# Altium integrated library Maxim Analog Filters.IntLib: 555 symbols (part 25 of 26)
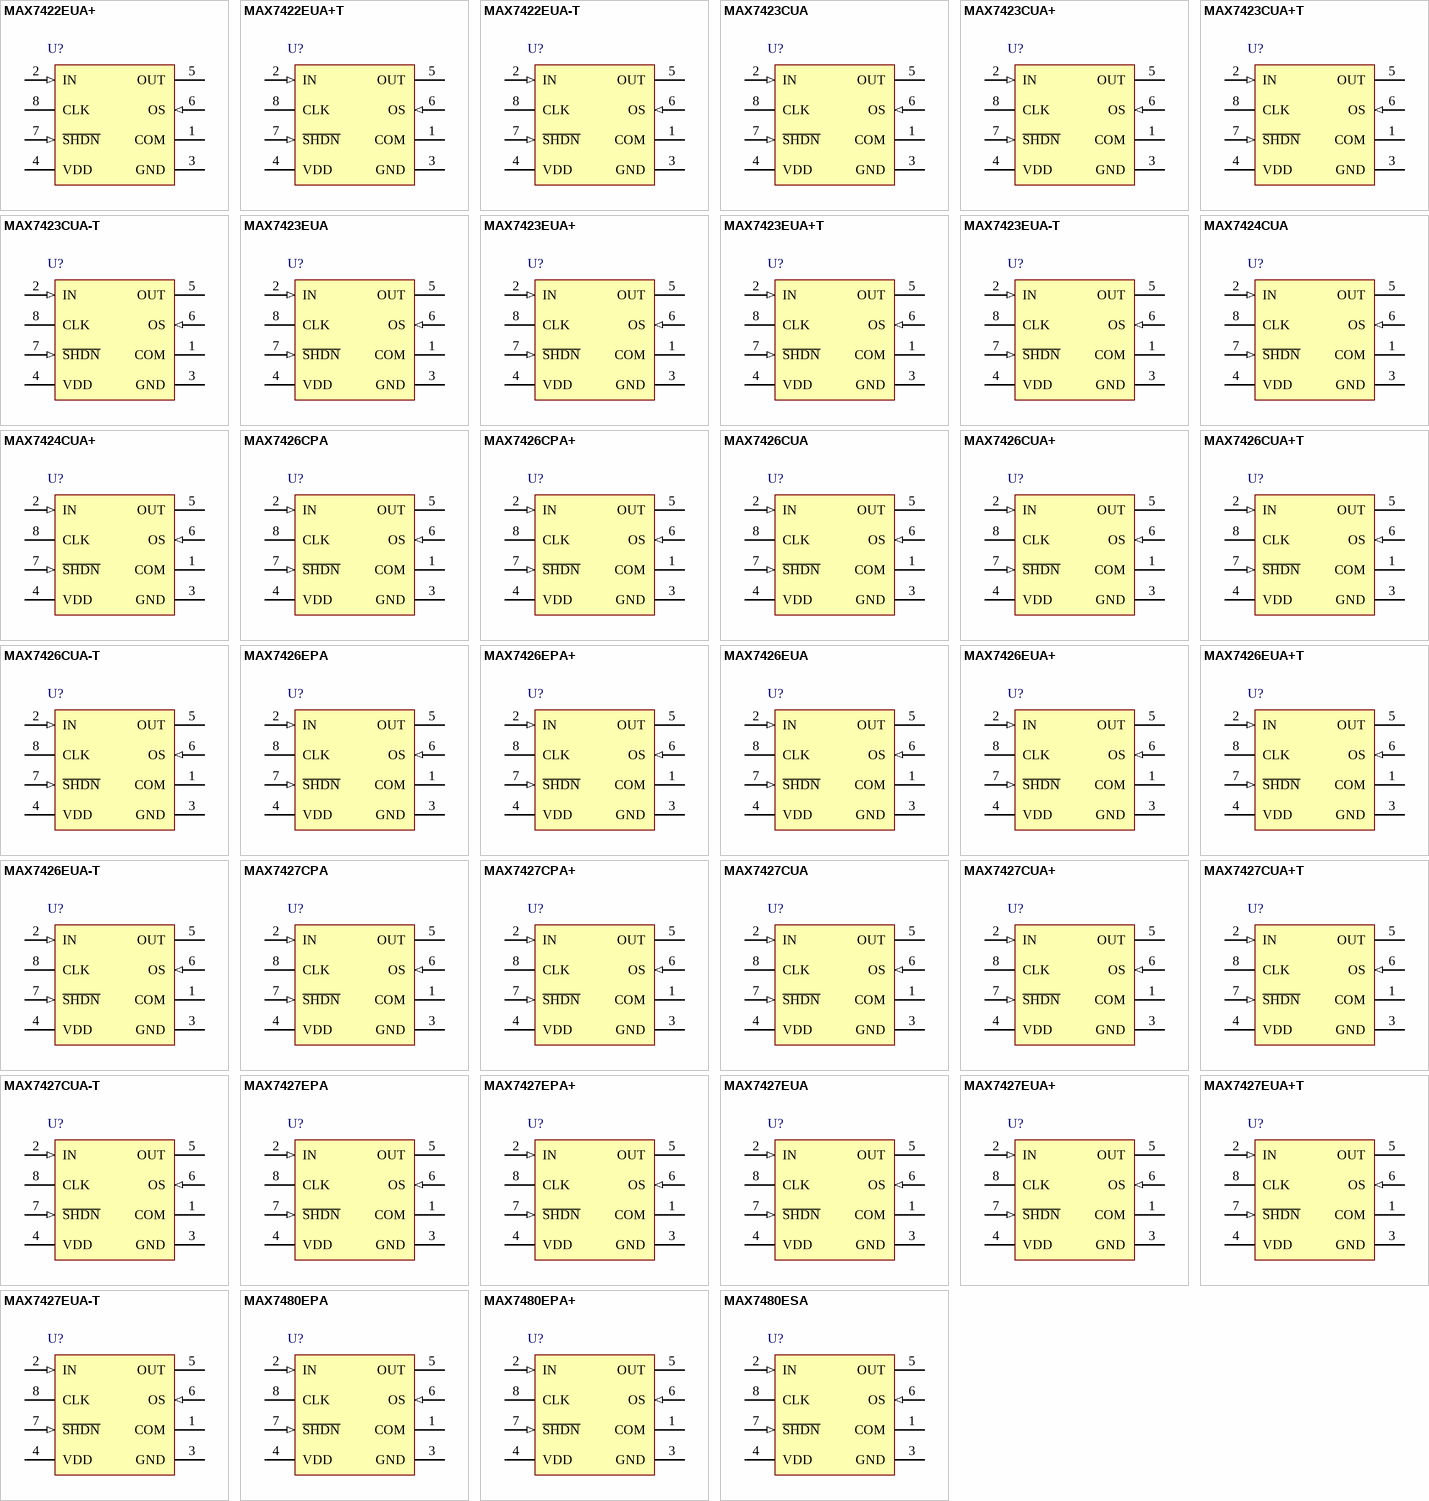
[diagram p41: symbols MAX7422EUA+ to MAX7480ESA]

## MAX7480ESA
designator U?
8th-Order Switched Capacitor Lowpass Filter, Butterworth, -40 to 85 degC, 8-Pin SOIC (S8-5); Generic Part Number: MAX7480; PartNumber: MAX7480ESA; Filter Sections: 1; Order Per Filter Section: 8; Program Method: Clock; DatasheetVersion: Rev. 0; PackageVersion: Rev. D, 10/2012; PackageReference: S8-5; PackageDescription: 8-Pin Small-Outline IC, Narrow (0.15in) (S8-5), Body 4.90 x 3.90 mm, Pitch 1.27 mm; Supplier 1: Mouser; Supplier Part Number 1: N/A; Filter Characteristic: Butterworth; Filter Class: Switched Cap; Filter Type: Lowpass; Mounting Technology: Surface Mount; Code_JEDEC: MS012; ComponentLink1Description: Manufacturer URL; ComponentLink1URL: http://www.maximintegrated.com/; ComponentLink2Description: Datasheet; ComponentLink2URL: http://datasheets.maximintegrated.com/en/ds/MAX7480.pdf; ComponentLink3Description: Package Specification; ComponentLink3URL: http://pdfserv.maximintegrated.com/package_dwgs/21-0041.PDF
footprint MAXM-S8-5_N (SOIC, 8-Leads, Body 4.9x3.9mm, Pitch 1.27mm, IPC Medium Density)
footprint MAXM-S8-5_L (SOIC, 8-Leads, Body 4.9x3.9mm, Pitch 1.27mm, IPC High Density)
footprint MAXM-S8-5_M (SOIC, 8-Leads, Body 4.9x3.9mm, Pitch 1.27mm, IPC Low Density)
pins: 1 COM "Common Input. Biased internally at midsupply. Bypass externally to GND with a 0.1uF capacitor. To override internal biasing, drive with an external supply.", 2 IN (in) "Filter Input", 3 GND (power) "Ground", 4 VDD (power) "Positive Supply Input: +5V for MAX7400/MAX7403, +3V for MAX7404/MAX7407", 5 OUT (hiz) "Filter Output", 6 OS (in) "Offset Adjust Input. To adjust output offset, bias OS externally. Connect OS to COM if no offset adjustment is needed. Refer to Offset and Common-Mode Input Adjustment section.", 7 ~{SHDN} (in) "Shutdown Input. Drive low to enable shutdown mode; drive high or connect to VDD for normal operation.", 8 CLK "Clock Input. To override the internal oscillator, connect to an external clock; otherwise, connect an external capacitor (COSC) from CLK to GND to set the internal oscillator frequency."

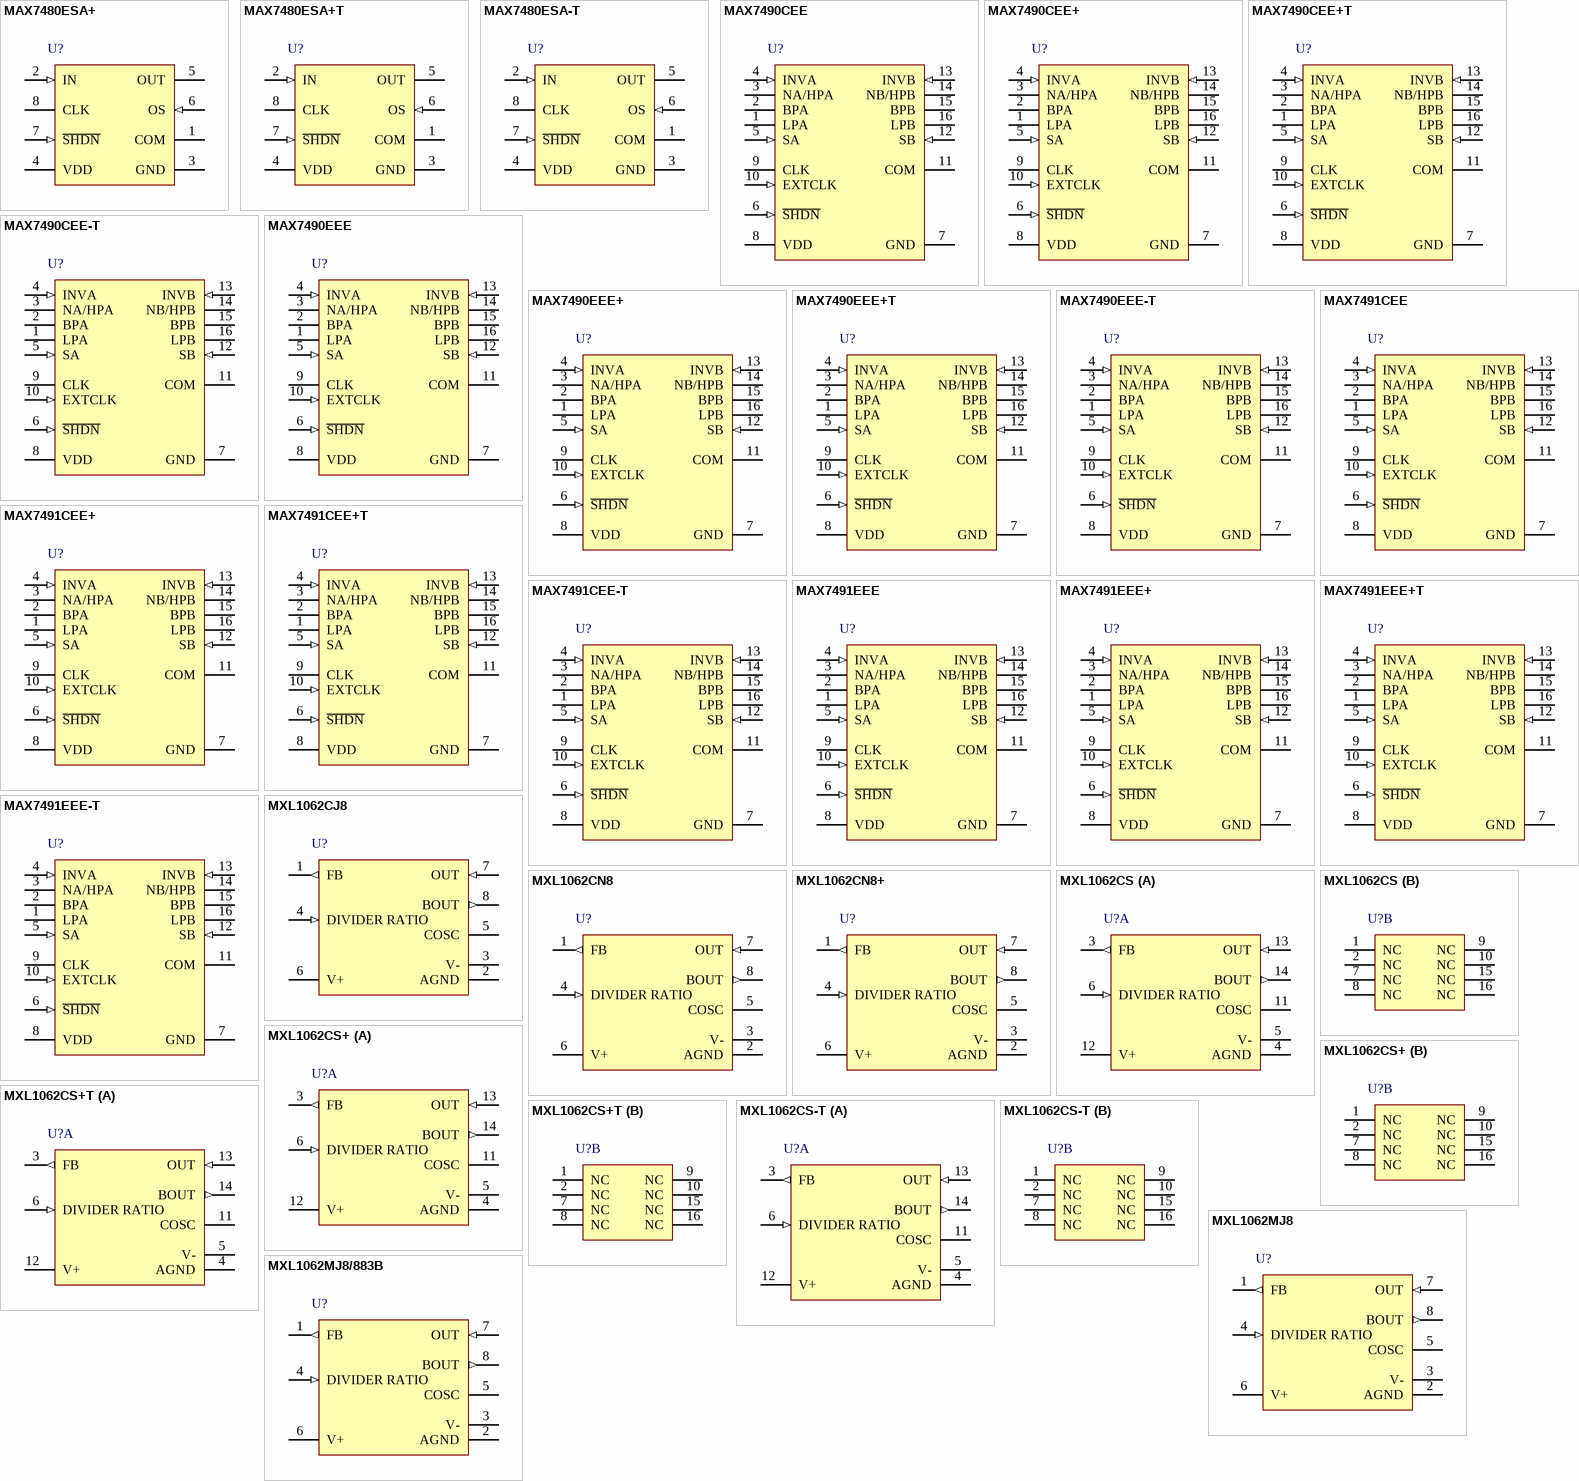
[diagram p17: symbols MAX7480ESA+ to MXL1062MJ8/883B]

## MAX7480ESA+
designator U?
8th-Order Switched Capacitor Lowpass Filter, Butterworth, -40 to 85 degC, 8-Pin SOIC (S8+5), Pb-Free; Generic Part Number: MAX7480; PartNumber: MAX7480ESA+; Filter Sections: 1; Order Per Filter Section: 8; Program Method: Clock; DatasheetVersion: Rev. 0; PackageVersion: Rev. D, 10/2012; PackageReference: S8+5; PackageDescription: 8-Pin Small-Outline IC, Narrow (0.15in) (S8+5), Body 4.90 x 3.90 mm, Pitch 1.27 mm; Supplier 1: Digi-Key; Supplier Part Number 1: MAX7480ESA+-ND; Supplier 2: Farnell; Supplier Part Number 2: 1187937; Supplier 3: Newark; Supplier Part Number 3: 89K6217; Supplier 4: Mouser; Supplier Part Number 4: 700-MAX7480ESA; Filter Characteristic: Butterworth; Filter Class: Switched Cap; Filter Type: Lowpass; RoHS: Pb-Free; Mounting Technology: Surface Mount; Code_JEDEC: MS012; ComponentLink1Description: Manufacturer URL; ComponentLink1URL: http://www.maximintegrated.com/; ComponentLink2Description: Datasheet; ComponentLink2URL: http://datasheets.maximintegrated.com/en/ds/MAX7480.pdf; ComponentLink3Description: Package Specification; ComponentLink3URL: http://pdfserv.maximintegrated.com/package_dwgs/21-0041.PDF
footprint MAXM-S8+5_N (SOIC, 8-Leads, Body 4.90x3.90mm, Pitch 1.27mm, IPC Medium Density)
footprint MAXM-S8+5_L (SOIC, 8-Leads, Body 4.90x3.90mm, Pitch 1.27mm, IPC High Density)
footprint MAXM-S8+5_M (SOIC, 8-Leads, Body 4.90x3.90mm, Pitch 1.27mm, IPC Low Density)
pins: 1 COM "Common Input. Biased internally at midsupply. Bypass externally to GND with a 0.1uF capacitor. To override internal biasing, drive with an external supply.", 2 IN (in) "Filter Input", 3 GND (power) "Ground", 4 VDD (power) "Positive Supply Input: +5V for MAX7400/MAX7403, +3V for MAX7404/MAX7407", 5 OUT (hiz) "Filter Output", 6 OS (in) "Offset Adjust Input. To adjust output offset, bias OS externally. Connect OS to COM if no offset adjustment is needed. Refer to Offset and Common-Mode Input Adjustment section.", 7 ~{SHDN} (in) "Shutdown Input. Drive low to enable shutdown mode; drive high or connect to VDD for normal operation.", 8 CLK "Clock Input. To override the internal oscillator, connect to an external clock; otherwise, connect an external capacitor (COSC) from CLK to GND to set the internal oscillator frequency."

## MAX7480ESA+T
designator U?
8th-Order Switched Capacitor Lowpass Filter, Butterworth, -40 to 85 degC, 8-Pin SOIC (S8+5), Pb-Free, Tape and Reel; Generic Part Number: MAX7480; PartNumber: MAX7480ESA+T; Filter Sections: 1; Order Per Filter Section: 8; Program Method: Clock; DatasheetVersion: Rev. 0; PackageVersion: Rev. D, 10/2012; PackageReference: S8+5; PackageDescription: 8-Pin Small-Outline IC, Narrow (0.15in) (S8+5), Body 4.90 x 3.90 mm, Pitch 1.27 mm; Supplier 1: Digi-Key; Supplier Part Number 1: MAX7480ESA+T-ND; Supplier 2: Mouser; Supplier Part Number 2: 700-MAX7480ESAT; Filter Characteristic: Butterworth; Filter Class: Switched Cap; Filter Type: Lowpass; Packing: Tape and Reel; RoHS: Pb-Free; Mounting Technology: Surface Mount; Code_JEDEC: MS012; ComponentLink1Description: Manufacturer URL; ComponentLink1URL: http://www.maximintegrated.com/; ComponentLink2Description: Datasheet; ComponentLink2URL: http://datasheets.maximintegrated.com/en/ds/MAX7480.pdf; ComponentLink3Description: Package Specification; ComponentLink3URL: http://pdfserv.maximintegrated.com/package_dwgs/21-0041.PDF
footprint MAXM-S8+5_N (SOIC, 8-Leads, Body 4.90x3.90mm, Pitch 1.27mm, IPC Medium Density)
footprint MAXM-S8+5_L (SOIC, 8-Leads, Body 4.90x3.90mm, Pitch 1.27mm, IPC High Density)
footprint MAXM-S8+5_M (SOIC, 8-Leads, Body 4.90x3.90mm, Pitch 1.27mm, IPC Low Density)
pins: 1 COM "Common Input. Biased internally at midsupply. Bypass externally to GND with a 0.1uF capacitor. To override internal biasing, drive with an external supply.", 2 IN (in) "Filter Input", 3 GND (power) "Ground", 4 VDD (power) "Positive Supply Input: +5V for MAX7400/MAX7403, +3V for MAX7404/MAX7407", 5 OUT (hiz) "Filter Output", 6 OS (in) "Offset Adjust Input. To adjust output offset, bias OS externally. Connect OS to COM if no offset adjustment is needed. Refer to Offset and Common-Mode Input Adjustment section.", 7 ~{SHDN} (in) "Shutdown Input. Drive low to enable shutdown mode; drive high or connect to VDD for normal operation.", 8 CLK "Clock Input. To override the internal oscillator, connect to an external clock; otherwise, connect an external capacitor (COSC) from CLK to GND to set the internal oscillator frequency."

## MAX7480ESA-T
designator U?
8th-Order Switched Capacitor Lowpass Filter, Butterworth, -40 to 85 degC, 8-Pin SOIC (S8-5), Tape and Reel; Generic Part Number: MAX7480; PartNumber: MAX7480ESA-T; Filter Sections: 1; Order Per Filter Section: 8; Program Method: Clock; DatasheetVersion: Rev. 0; PackageVersion: Rev. D, 10/2012; PackageReference: S8-5; PackageDescription: 8-Pin Small-Outline IC, Narrow (0.15in) (S8-5), Body 4.90 x 3.90 mm, Pitch 1.27 mm; Supplier 1: Mouser; Supplier Part Number 1: N/A; Filter Characteristic: Butterworth; Filter Class: Switched Cap; Filter Type: Lowpass; Packing: Tape and Reel; Mounting Technology: Surface Mount; Code_JEDEC: MS012; ComponentLink1Description: Manufacturer URL; ComponentLink1URL: http://www.maximintegrated.com/; ComponentLink2Description: Datasheet; ComponentLink2URL: http://datasheets.maximintegrated.com/en/ds/MAX7480.pdf; ComponentLink3Description: Package Specification; ComponentLink3URL: http://pdfserv.maximintegrated.com/package_dwgs/21-0041.PDF
footprint MAXM-S8-5_N (SOIC, 8-Leads, Body 4.9x3.9mm, Pitch 1.27mm, IPC Medium Density)
footprint MAXM-S8-5_L (SOIC, 8-Leads, Body 4.9x3.9mm, Pitch 1.27mm, IPC High Density)
footprint MAXM-S8-5_M (SOIC, 8-Leads, Body 4.9x3.9mm, Pitch 1.27mm, IPC Low Density)
pins: 1 COM "Common Input. Biased internally at midsupply. Bypass externally to GND with a 0.1uF capacitor. To override internal biasing, drive with an external supply.", 2 IN (in) "Filter Input", 3 GND (power) "Ground", 4 VDD (power) "Positive Supply Input: +5V for MAX7400/MAX7403, +3V for MAX7404/MAX7407", 5 OUT (hiz) "Filter Output", 6 OS (in) "Offset Adjust Input. To adjust output offset, bias OS externally. Connect OS to COM if no offset adjustment is needed. Refer to Offset and Common-Mode Input Adjustment section.", 7 ~{SHDN} (in) "Shutdown Input. Drive low to enable shutdown mode; drive high or connect to VDD for normal operation.", 8 CLK "Clock Input. To override the internal oscillator, connect to an external clock; otherwise, connect an external capacitor (COSC) from CLK to GND to set the internal oscillator frequency."

## MAX7490CEE
designator U?
Dual Switched Capacitor Filter, Clock Programmable, 0 to 70 degC, 16-Pin SOP (E16-4); Generic Part Number: MAX7490; PartNumber: MAX7490CEE; Filter Sections: 2; Filter Type: Universal; DatasheetVersion: Rev. 1; PackageVersion: Rev. K, 04/2012; PackageReference: E16-4; PackageDescription: 16-Pin Quarter Small-Outline Package, Body 4.90 x 3.89 mm, Pitch 0.635 mm; Supplier 1: Mouser; Supplier Part Number 1: N/A; Filter Characteristic: Programmable; Filter Class: Switched Cap; Order Per Filter Section: 2; Program Method: Clock; Mounting Technology: Surface Mount; Code_JEDEC: MO137; ComponentLink1Description: Manufacturer URL; ComponentLink1URL: http://www.maximintegrated.com/; ComponentLink2Description: Datasheet; ComponentLink2URL: http://datasheets.maximintegrated.com/en/ds/MAX7490-MAX7491.pdf; ComponentLink3Description: Package Specification; ComponentLink3URL: http://pdfserv.maximintegrated.com/package_dwgs/21-0055.PDF
footprint MAXM-E16-4_N (SOP, 16-Leads, Body 4.90x3.89mm, Pitch 0.635mm, IPC Medium Density)
footprint MAXM-E16-4_L (SOP, 16-Leads, Body 4.90x3.89mm, Pitch 0.635mm, IPC High Density)
footprint MAXM-E16-4_M (SOP, 16-Leads, Body 4.90x3.89mm, Pitch 0.635mm, IPC Low Density)
pins: 1 LPA (hiz) "2nd-Order Lowpass Filter Output", 2 BPA (hiz) "2nd-Order Bandpass Filter Output", 3 NA/HPA (hiz) "2nd-Order Notch/Highpass Filter Output", 4 INVA (in) "Inverting Input of Filter Summing Op Amp", 5 SA (in) "Summing Input. The connection of the summing input, along with the other resistor connections, determine the circuit topology (mode) of each 2ndorder section. SA must never be left unconnected.", 6 ~{SHDN} (in) "Shutdown Input. Drive S\H\D\N\ low to enable shutdown mode; drive S\H\D\N\ high or connect to VDD for normal operation.", 7 GND (power) "Ground Pin", 8 VDD (power) "Positive Supply. Bypass VDD with a 0.1µF capacitor to GND. A low-noise supply is recommended. Input +5V for MAX7490 or +3V for MAX7491.", 9 CLK "Clock Input. Connect CLK to an external capacitor (COSC) between CLK and ground to set the internal oscillator frequency. For external clock operation, drive CLK with a CMOS-level clock. The duty cycle of the external clock (See Datasheet)", 10 EXTCLK (in) "External/Internal Clock Select Input. Connect EXTCLK to VDD when driving CLK externally. Connect EXTCLK to GND when using the internal oscillator.", 11 COM "Common Pin. Biased internally at VDD/2. Bypass externally to GND with 0.1µF capacitor. To override the internal biasing, drive COM with an external low-impedance source.", 12 SB (in) "Summing Input. The connection of the summing input, along with the other resistor connections, determine the circuit topology (mode) of each 2ndorder section. SB must never be left unconnected.", 13 INVB (in) "Inverting Input of Filter Summing Op Amp", 14 NB/HPB (hiz) "2nd-Order Notch/Highpass Filter Output", 15 BPB (hiz) "2nd-Order Bandpass Filter Output", 16 LPB (hiz) "2nd-Order Lowpass Filter Output"

## MAX7490CEE+
designator U?
Dual Switched Capacitor Filter, Clock Programmable, 0 to 70 degC, 16-Pin SOP (E16+4), Pb-Free; Generic Part Number: MAX7490; PartNumber: MAX7490CEE+; Filter Sections: 2; Filter Type: Universal; DatasheetVersion: Rev. 1; PackageVersion: Rev. K, 04/2012; PackageReference: E16+4; PackageDescription: 16-Pin Quarter Small-Outline Package, Body 4.90 x 3.89 mm, Pitch 0.635 mm; Supplier 1: Digi-Key; Supplier Part Number 1: MAX7490CEE+-ND; Supplier 2: Mouser; Supplier Part Number 2: 700-MAX7490CEE; Filter Characteristic: Programmable; Filter Class: Switched Cap; Order Per Filter Section: 2; Program Method: Clock; RoHS: Pb-Free; Mounting Technology: Surface Mount; Code_JEDEC: MO137; ComponentLink1Description: Manufacturer URL; ComponentLink1URL: http://www.maximintegrated.com/; ComponentLink2Description: Datasheet; ComponentLink2URL: http://datasheets.maximintegrated.com/en/ds/MAX7490-MAX7491.pdf; ComponentLink3Description: Package Specification; ComponentLink3URL: http://pdfserv.maximintegrated.com/package_dwgs/21-0055.PDF
footprint MAXM-E16+4_N (SOP, 16-Leads, Body 4.90x3.89mm, Pitch 0.635mm, IPC Medium Density)
footprint MAXM-E16+4_L (SOP, 16-Leads, Body 4.90x3.89mm, Pitch 0.635mm, IPC High Density)
footprint MAXM-E16+4_M (SOP, 16-Leads, Body 4.90x3.89mm, Pitch 0.635mm, IPC Low Density)
pins: 1 LPA (hiz) "2nd-Order Lowpass Filter Output", 2 BPA (hiz) "2nd-Order Bandpass Filter Output", 3 NA/HPA (hiz) "2nd-Order Notch/Highpass Filter Output", 4 INVA (in) "Inverting Input of Filter Summing Op Amp", 5 SA (in) "Summing Input. The connection of the summing input, along with the other resistor connections, determine the circuit topology (mode) of each 2ndorder section. S_ must never be left unconnected.", 6 ~{SHDN} (in) "Shutdown Input. Drive S\H\D\N\ low to enable shutdown mode; drive S\H\D\N\ high or connect to VDD for normal operation.", 7 GND (power) "Ground Pin", 8 VDD (power) "Positive Supply. Bypass VDD with a 0.1uF capacitor to GND. A low-noise supply is recommended. Input +5V for MAX7490", 9 CLK "Clock Input. Connect CLK to an external capacitor (COSC) between CLK and ground to set the internal oscillator frequency. For external clock operation, drive CLK with a CMOS-level clock. The duty cycle of the external clock (See Datasheet)", 10 EXTCLK (in) "External/Internal Clock Select Input. Connect EXTCLK to VDD when driving CLK externally. Connect EXTCLK to GND when using the internal oscillator.", 11 COM "Common Pin. Biased internally at VDD/2. Bypass externally to GND with 0.1uF capacitor. To override the internal biasing, drive COM with an external low-impedance source.", 12 SB (in) "Summing Input. The connection of the summing input, along with the other resistor connections, determine the circuit topology (mode) of each 2ndorder section. S_ must never be left unconnected.", 13 INVB (in) "Inverting Input of Filter Summing Op Amp", 14 NB/HPB (hiz) "2nd-Order Notch/Highpass Filter Output", 15 BPB (hiz) "2nd-Order Bandpass Filter Output", 16 LPB (hiz) "2nd-Order Lowpass Filter Output"

## MAX7490CEE+T
designator U?
Dual Switched Capacitor Filter, Clock Programmable, 0 to 70 degC, 16-Pin SOP (E16+4), Pb-Free, Tape and Reel; Generic Part Number: MAX7490; PartNumber: MAX7490CEE+T; Filter Sections: 2; Filter Type: Universal; DatasheetVersion: Rev. 1; PackageVersion: Rev. K, 04/2012; PackageReference: E16+4; PackageDescription: 16-Pin Quarter Small-Outline Package, Body 4.90 x 3.89 mm, Pitch 0.635 mm; Supplier 1: Digi-Key; Supplier Part Number 1: MAX7490CEE+T-ND; Supplier 2: Mouser; Supplier Part Number 2: 700-MAX7490CEET; Filter Characteristic: Programmable; Filter Class: Switched Cap; Order Per Filter Section: 2; Packing: Tape and Reel; Program Method: Clock; RoHS: Pb-Free; Mounting Technology: Surface Mount; Code_JEDEC: MO137; ComponentLink1Description: Manufacturer URL; ComponentLink1URL: http://www.maximintegrated.com/; ComponentLink2Description: Datasheet; ComponentLink2URL: http://datasheets.maximintegrated.com/en/ds/MAX7490-MAX7491.pdf; ComponentLink3Description: Package Specification; ComponentLink3URL: http://pdfserv.maximintegrated.com/package_dwgs/21-0055.PDF
footprint MAXM-E16+4_N (SOP, 16-Leads, Body 4.90x3.89mm, Pitch 0.635mm, IPC Medium Density)
footprint MAXM-E16+4_L (SOP, 16-Leads, Body 4.90x3.89mm, Pitch 0.635mm, IPC High Density)
footprint MAXM-E16+4_M (SOP, 16-Leads, Body 4.90x3.89mm, Pitch 0.635mm, IPC Low Density)
pins: 1 LPA (hiz) "2nd-Order Lowpass Filter Output", 2 BPA (hiz) "2nd-Order Bandpass Filter Output", 3 NA/HPA (hiz) "2nd-Order Notch/Highpass Filter Output", 4 INVA (in) "Inverting Input of Filter Summing Op Amp", 5 SA (in) "Summing Input. The connection of the summing input, along with the other resistor connections, determine the circuit topology (mode) of each 2ndorder section. S_ must never be left unconnected.", 6 ~{SHDN} (in) "Shutdown Input. Drive S\H\D\N\ low to enable shutdown mode; drive S\H\D\N\ high or connect to VDD for normal operation.", 7 GND (power) "Ground Pin", 8 VDD (power) "Positive Supply. Bypass VDD with a 0.1uF capacitor to GND. A low-noise supply is recommended. Input +5V for MAX7490", 9 CLK "Clock Input. Connect CLK to an external capacitor (COSC) between CLK and ground to set the internal oscillator frequency. For external clock operation, drive CLK with a CMOS-level clock. The duty cycle of the external clock (See Datasheet)", 10 EXTCLK (in) "External/Internal Clock Select Input. Connect EXTCLK to VDD when driving CLK externally. Connect EXTCLK to GND when using the internal oscillator.", 11 COM "Common Pin. Biased internally at VDD/2. Bypass externally to GND with 0.1uF capacitor. To override the internal biasing, drive COM with an external low-impedance source.", 12 SB (in) "Summing Input. The connection of the summing input, along with the other resistor connections, determine the circuit topology (mode) of each 2ndorder section. S_ must never be left unconnected.", 13 INVB (in) "Inverting Input of Filter Summing Op Amp", 14 NB/HPB (hiz) "2nd-Order Notch/Highpass Filter Output", 15 BPB (hiz) "2nd-Order Bandpass Filter Output", 16 LPB (hiz) "2nd-Order Lowpass Filter Output"

## MAX7490CEE-T
designator U?
Dual Switched Capacitor Filter, Clock Programmable, 0 to 70 degC, 16-Pin SOP (E16-4), Tape and Reel; Generic Part Number: MAX7490; PartNumber: MAX7490CEE-T; Filter Sections: 2; Filter Type: Universal; DatasheetVersion: Rev. 1; PackageVersion: Rev. K, 04/2012; PackageReference: E16-4; PackageDescription: 16-Pin Quarter Small-Outline Package, Body 4.90 x 3.89 mm, Pitch 0.635 mm; Supplier 1: Mouser; Supplier Part Number 1: N/A; Filter Characteristic: Programmable; Filter Class: Switched Cap; Order Per Filter Section: 2; Packing: Tape and Reel; Program Method: Clock; Mounting Technology: Surface Mount; Code_JEDEC: MO137; ComponentLink1Description: Manufacturer URL; ComponentLink1URL: http://www.maximintegrated.com/; ComponentLink2Description: Datasheet; ComponentLink2URL: http://datasheets.maximintegrated.com/en/ds/MAX7490-MAX7491.pdf; ComponentLink3Description: Package Specification; ComponentLink3URL: http://pdfserv.maximintegrated.com/package_dwgs/21-0055.PDF
footprint MAXM-E16-4_N (SOP, 16-Leads, Body 4.90x3.89mm, Pitch 0.635mm, IPC Medium Density)
footprint MAXM-E16-4_L (SOP, 16-Leads, Body 4.90x3.89mm, Pitch 0.635mm, IPC High Density)
footprint MAXM-E16-4_M (SOP, 16-Leads, Body 4.90x3.89mm, Pitch 0.635mm, IPC Low Density)
pins: 1 LPA (hiz) "2nd-Order Lowpass Filter Output", 2 BPA (hiz) "2nd-Order Bandpass Filter Output", 3 NA/HPA (hiz) "2nd-Order Notch/Highpass Filter Output", 4 INVA (in) "Inverting Input of Filter Summing Op Amp", 5 SA (in) "Summing Input. The connection of the summing input, along with the other resistor connections, determine the circuit topology (mode) of each 2ndorder section. SA must never be left unconnected.", 6 ~{SHDN} (in) "Shutdown Input. Drive S\H\D\N\ low to enable shutdown mode; drive S\H\D\N\ high or connect to VDD for normal operation.", 7 GND (power) "Ground Pin", 8 VDD (power) "Positive Supply. Bypass VDD with a 0.1µF capacitor to GND. A low-noise supply is recommended. Input +5V for MAX7490 or +3V for MAX7491.", 9 CLK "Clock Input. Connect CLK to an external capacitor (COSC) between CLK and ground to set the internal oscillator frequency. For external clock operation, drive CLK with a CMOS-level clock. The duty cycle of the external clock (See Datasheet)", 10 EXTCLK (in) "External/Internal Clock Select Input. Connect EXTCLK to VDD when driving CLK externally. Connect EXTCLK to GND when using the internal oscillator.", 11 COM "Common Pin. Biased internally at VDD/2. Bypass externally to GND with 0.1µF capacitor. To override the internal biasing, drive COM with an external low-impedance source.", 12 SB (in) "Summing Input. The connection of the summing input, along with the other resistor connections, determine the circuit topology (mode) of each 2ndorder section. SB must never be left unconnected.", 13 INVB (in) "Inverting Input of Filter Summing Op Amp", 14 NB/HPB (hiz) "2nd-Order Notch/Highpass Filter Output", 15 BPB (hiz) "2nd-Order Bandpass Filter Output", 16 LPB (hiz) "2nd-Order Lowpass Filter Output"

## MAX7490EEE
designator U?
Dual Switched Capacitor Filter, Clock Programmable, -40 to 85 degC, 16-Pin SOP (E16-4); Generic Part Number: MAX7490; PartNumber: MAX7490EEE; Filter Sections: 2; Filter Type: Universal; DatasheetVersion: Rev. 1; PackageVersion: Rev. K, 04/2012; PackageReference: E16-4; PackageDescription: 16-Pin Quarter Small-Outline Package, Body 4.90 x 3.89 mm, Pitch 0.635 mm; Supplier 1: Mouser; Supplier Part Number 1: N/A; Filter Characteristic: Programmable; Filter Class: Switched Cap; Order Per Filter Section: 2; Program Method: Clock; Mounting Technology: Surface Mount; Code_JEDEC: MO137; ComponentLink1Description: Manufacturer URL; ComponentLink1URL: http://www.maximintegrated.com/; ComponentLink2Description: Datasheet; ComponentLink2URL: http://datasheets.maximintegrated.com/en/ds/MAX7490-MAX7491.pdf; ComponentLink3Description: Package Specification; ComponentLink3URL: http://pdfserv.maximintegrated.com/package_dwgs/21-0055.PDF
footprint MAXM-E16-4_N (SOP, 16-Leads, Body 4.90x3.89mm, Pitch 0.635mm, IPC Medium Density)
footprint MAXM-E16-4_L (SOP, 16-Leads, Body 4.90x3.89mm, Pitch 0.635mm, IPC High Density)
footprint MAXM-E16-4_M (SOP, 16-Leads, Body 4.90x3.89mm, Pitch 0.635mm, IPC Low Density)
pins: 1 LPA (hiz) "2nd-Order Lowpass Filter Output", 2 BPA (hiz) "2nd-Order Bandpass Filter Output", 3 NA/HPA (hiz) "2nd-Order Notch/Highpass Filter Output", 4 INVA (in) "Inverting Input of Filter Summing Op Amp", 5 SA (in) "Summing Input. The connection of the summing input, along with the other resistor connections, determine the circuit topology (mode) of each 2ndorder section. SA must never be left unconnected.", 6 ~{SHDN} (in) "Shutdown Input. Drive S\H\D\N\ low to enable shutdown mode; drive S\H\D\N\ high or connect to VDD for normal operation.", 7 GND (power) "Ground Pin", 8 VDD (power) "Positive Supply. Bypass VDD with a 0.1µF capacitor to GND. A low-noise supply is recommended. Input +5V for MAX7490 or +3V for MAX7491.", 9 CLK "Clock Input. Connect CLK to an external capacitor (COSC) between CLK and ground to set the internal oscillator frequency. For external clock operation, drive CLK with a CMOS-level clock. The duty cycle of the external clock (See Datasheet)", 10 EXTCLK (in) "External/Internal Clock Select Input. Connect EXTCLK to VDD when driving CLK externally. Connect EXTCLK to GND when using the internal oscillator.", 11 COM "Common Pin. Biased internally at VDD/2. Bypass externally to GND with 0.1µF capacitor. To override the internal biasing, drive COM with an external low-impedance source.", 12 SB (in) "Summing Input. The connection of the summing input, along with the other resistor connections, determine the circuit topology (mode) of each 2ndorder section. SB must never be left unconnected.", 13 INVB (in) "Inverting Input of Filter Summing Op Amp", 14 NB/HPB (hiz) "2nd-Order Notch/Highpass Filter Output", 15 BPB (hiz) "2nd-Order Bandpass Filter Output", 16 LPB (hiz) "2nd-Order Lowpass Filter Output"

## MAX7490EEE+
designator U?
Dual Switched Capacitor Filter, Clock Programmable, -40 to 85 degC, 16-Pin SOP (E16+4), Pb-Free; Generic Part Number: MAX7490; PartNumber: MAX7490EEE+; Filter Sections: 2; Filter Type: Universal; DatasheetVersion: Rev. 1; PackageVersion: Rev. K, 04/2012; PackageReference: E16+4; PackageDescription: 16-Pin Quarter Small-Outline Package, Body 4.90 x 3.89 mm, Pitch 0.635 mm; Supplier 1: Digi-Key; Supplier Part Number 1: MAX7490EEE+-ND; Supplier 2: Farnell; Supplier Part Number 2: 1904130; Supplier 3: Mouser; Supplier Part Number 3: 700-MAX7490EEE; Filter Characteristic: Programmable; Filter Class: Switched Cap; Order Per Filter Section: 2; Program Method: Clock; RoHS: Pb-Free; Mounting Technology: Surface Mount; Code_JEDEC: MO137; ComponentLink1Description: Manufacturer URL; ComponentLink1URL: http://www.maximintegrated.com/; ComponentLink2Description: Datasheet; ComponentLink2URL: http://datasheets.maximintegrated.com/en/ds/MAX7490-MAX7491.pdf; ComponentLink3Description: Package Specification; ComponentLink3URL: http://pdfserv.maximintegrated.com/package_dwgs/21-0055.PDF
footprint MAXM-E16+4_N (SOP, 16-Leads, Body 4.90x3.89mm, Pitch 0.635mm, IPC Medium Density)
footprint MAXM-E16+4_L (SOP, 16-Leads, Body 4.90x3.89mm, Pitch 0.635mm, IPC High Density)
footprint MAXM-E16+4_M (SOP, 16-Leads, Body 4.90x3.89mm, Pitch 0.635mm, IPC Low Density)
pins: 1 LPA (hiz) "2nd-Order Lowpass Filter Output", 2 BPA (hiz) "2nd-Order Bandpass Filter Output", 3 NA/HPA (hiz) "2nd-Order Notch/Highpass Filter Output", 4 INVA (in) "Inverting Input of Filter Summing Op Amp", 5 SA (in) "Summing Input. The connection of the summing input, along with the other resistor connections, determine the circuit topology (mode) of each 2ndorder section. S_ must never be left unconnected.", 6 ~{SHDN} (in) "Shutdown Input. Drive S\H\D\N\ low to enable shutdown mode; drive S\H\D\N\ high or connect to VDD for normal operation.", 7 GND (power) "Ground Pin", 8 VDD (power) "Positive Supply. Bypass VDD with a 0.1uF capacitor to GND. A low-noise supply is recommended. Input +5V for MAX7490", 9 CLK "Clock Input. Connect CLK to an external capacitor (COSC) between CLK and ground to set the internal oscillator frequency. For external clock operation, drive CLK with a CMOS-level clock. The duty cycle of the external clock (See Datasheet)", 10 EXTCLK (in) "External/Internal Clock Select Input. Connect EXTCLK to VDD when driving CLK externally. Connect EXTCLK to GND when using the internal oscillator.", 11 COM "Common Pin. Biased internally at VDD/2. Bypass externally to GND with 0.1uF capacitor. To override the internal biasing, drive COM with an external low-impedance source.", 12 SB (in) "Summing Input. The connection of the summing input, along with the other resistor connections, determine the circuit topology (mode) of each 2ndorder section. S_ must never be left unconnected.", 13 INVB (in) "Inverting Input of Filter Summing Op Amp", 14 NB/HPB (hiz) "2nd-Order Notch/Highpass Filter Output", 15 BPB (hiz) "2nd-Order Bandpass Filter Output", 16 LPB (hiz) "2nd-Order Lowpass Filter Output"

## MAX7490EEE+T
designator U?
Dual Switched Capacitor Filter, Clock Programmable, -40 to 85 degC, 16-Pin SOP (E16+4), Pb-Free, Tape and Reel; Generic Part Number: MAX7490; PartNumber: MAX7490EEE+T; Filter Sections: 2; Filter Type: Universal; DatasheetVersion: Rev. 1; PackageVersion: Rev. K, 04/2012; PackageReference: E16+4; PackageDescription: 16-Pin Quarter Small-Outline Package, Body 4.90 x 3.89 mm, Pitch 0.635 mm; Supplier 1: Digi-Key; Supplier Part Number 1: MAX7490EEE+T-ND; Supplier 2: Mouser; Supplier Part Number 2: 700-MAX7490EEET; Filter Characteristic: Programmable; Filter Class: Switched Cap; Order Per Filter Section: 2; Packing: Tape and Reel; Program Method: Clock; RoHS: Pb-Free; Mounting Technology: Surface Mount; Code_JEDEC: MO137; ComponentLink1Description: Manufacturer URL; ComponentLink1URL: http://www.maximintegrated.com/; ComponentLink2Description: Datasheet; ComponentLink2URL: http://datasheets.maximintegrated.com/en/ds/MAX7490-MAX7491.pdf; ComponentLink3Description: Package Specification; ComponentLink3URL: http://pdfserv.maximintegrated.com/package_dwgs/21-0055.PDF
footprint MAXM-E16+4_N (SOP, 16-Leads, Body 4.90x3.89mm, Pitch 0.635mm, IPC Medium Density)
footprint MAXM-E16+4_L (SOP, 16-Leads, Body 4.90x3.89mm, Pitch 0.635mm, IPC High Density)
footprint MAXM-E16+4_M (SOP, 16-Leads, Body 4.90x3.89mm, Pitch 0.635mm, IPC Low Density)
pins: 1 LPA (hiz) "2nd-Order Lowpass Filter Output", 2 BPA (hiz) "2nd-Order Bandpass Filter Output", 3 NA/HPA (hiz) "2nd-Order Notch/Highpass Filter Output", 4 INVA (in) "Inverting Input of Filter Summing Op Amp", 5 SA (in) "Summing Input. The connection of the summing input, along with the other resistor connections, determine the circuit topology (mode) of each 2ndorder section. S_ must never be left unconnected.", 6 ~{SHDN} (in) "Shutdown Input. Drive S\H\D\N\ low to enable shutdown mode; drive S\H\D\N\ high or connect to VDD for normal operation.", 7 GND (power) "Ground Pin", 8 VDD (power) "Positive Supply. Bypass VDD with a 0.1uF capacitor to GND. A low-noise supply is recommended. Input +5V for MAX7490", 9 CLK "Clock Input. Connect CLK to an external capacitor (COSC) between CLK and ground to set the internal oscillator frequency. For external clock operation, drive CLK with a CMOS-level clock. The duty cycle of the external clock (See Datasheet)", 10 EXTCLK (in) "External/Internal Clock Select Input. Connect EXTCLK to VDD when driving CLK externally. Connect EXTCLK to GND when using the internal oscillator.", 11 COM "Common Pin. Biased internally at VDD/2. Bypass externally to GND with 0.1uF capacitor. To override the internal biasing, drive COM with an external low-impedance source.", 12 SB (in) "Summing Input. The connection of the summing input, along with the other resistor connections, determine the circuit topology (mode) of each 2ndorder section. S_ must never be left unconnected.", 13 INVB (in) "Inverting Input of Filter Summing Op Amp", 14 NB/HPB (hiz) "2nd-Order Notch/Highpass Filter Output", 15 BPB (hiz) "2nd-Order Bandpass Filter Output", 16 LPB (hiz) "2nd-Order Lowpass Filter Output"

## MAX7490EEE-T
designator U?
Dual Switched Capacitor Filter, Clock Programmable, -40 to 85 degC, 16-Pin SOP (E16-4), Tape and Reel; Generic Part Number: MAX7490; PartNumber: MAX7490EEE-T; Filter Sections: 2; Filter Type: Universal; DatasheetVersion: Rev. 1; PackageVersion: Rev. K, 04/2012; PackageReference: E16-4; PackageDescription: 16-Pin Quarter Small-Outline Package, Body 4.90 x 3.89 mm, Pitch 0.635 mm; Supplier 1: Mouser; Supplier Part Number 1: N/A; Filter Characteristic: Programmable; Filter Class: Switched Cap; Order Per Filter Section: 2; Packing: Tape and Reel; Program Method: Clock; Mounting Technology: Surface Mount; Code_JEDEC: MO137; ComponentLink1Description: Manufacturer URL; ComponentLink1URL: http://www.maximintegrated.com/; ComponentLink2Description: Datasheet; ComponentLink2URL: http://datasheets.maximintegrated.com/en/ds/MAX7490-MAX7491.pdf; ComponentLink3Description: Package Specification; ComponentLink3URL: http://pdfserv.maximintegrated.com/package_dwgs/21-0055.PDF
footprint MAXM-E16-4_N (SOP, 16-Leads, Body 4.90x3.89mm, Pitch 0.635mm, IPC Medium Density)
footprint MAXM-E16-4_L (SOP, 16-Leads, Body 4.90x3.89mm, Pitch 0.635mm, IPC High Density)
footprint MAXM-E16-4_M (SOP, 16-Leads, Body 4.90x3.89mm, Pitch 0.635mm, IPC Low Density)
pins: 1 LPA (hiz) "2nd-Order Lowpass Filter Output", 2 BPA (hiz) "2nd-Order Bandpass Filter Output", 3 NA/HPA (hiz) "2nd-Order Notch/Highpass Filter Output", 4 INVA (in) "Inverting Input of Filter Summing Op Amp", 5 SA (in) "Summing Input. The connection of the summing input, along with the other resistor connections, determine the circuit topology (mode) of each 2ndorder section. SA must never be left unconnected.", 6 ~{SHDN} (in) "Shutdown Input. Drive S\H\D\N\ low to enable shutdown mode; drive S\H\D\N\ high or connect to VDD for normal operation.", 7 GND (power) "Ground Pin", 8 VDD (power) "Positive Supply. Bypass VDD with a 0.1µF capacitor to GND. A low-noise supply is recommended. Input +5V for MAX7490 or +3V for MAX7491.", 9 CLK "Clock Input. Connect CLK to an external capacitor (COSC) between CLK and ground to set the internal oscillator frequency. For external clock operation, drive CLK with a CMOS-level clock. The duty cycle of the external clock (See Datasheet)", 10 EXTCLK (in) "External/Internal Clock Select Input. Connect EXTCLK to VDD when driving CLK externally. Connect EXTCLK to GND when using the internal oscillator.", 11 COM "Common Pin. Biased internally at VDD/2. Bypass externally to GND with 0.1µF capacitor. To override the internal biasing, drive COM with an external low-impedance source.", 12 SB (in) "Summing Input. The connection of the summing input, along with the other resistor connections, determine the circuit topology (mode) of each 2ndorder section. SB must never be left unconnected.", 13 INVB (in) "Inverting Input of Filter Summing Op Amp", 14 NB/HPB (hiz) "2nd-Order Notch/Highpass Filter Output", 15 BPB (hiz) "2nd-Order Bandpass Filter Output", 16 LPB (hiz) "2nd-Order Lowpass Filter Output"

## MAX7491CEE
designator U?
Dual Switched Capacitor Filter, Clock Programmable, 0 to 70 degC, 16-Pin SOP (E16-4); Generic Part Number: MAX7491; PartNumber: MAX7491CEE; Filter Sections: 2; Filter Type: Universal; DatasheetVersion: Rev. 1; PackageVersion: Rev. K, 04/2012; PackageReference: E16-4; PackageDescription: 16-Pin Quarter Small-Outline Package, Body 4.90 x 3.89 mm, Pitch 0.635 mm; Supplier 1: Mouser; Supplier Part Number 1: N/A; Filter Characteristic: Programmable; Filter Class: Switched Cap; Order Per Filter Section: 2; Program Method: Clock; Mounting Technology: Surface Mount; Code_JEDEC: MO137; ComponentLink1Description: Manufacturer URL; ComponentLink1URL: http://www.maximintegrated.com/; ComponentLink2Description: Datasheet; ComponentLink2URL: http://datasheets.maximintegrated.com/en/ds/MAX7490-MAX7491.pdf; ComponentLink3Description: Package Specification; ComponentLink3URL: http://pdfserv.maximintegrated.com/package_dwgs/21-0055.PDF
footprint MAXM-E16-4_N (SOP, 16-Leads, Body 4.90x3.89mm, Pitch 0.635mm, IPC Medium Density)
footprint MAXM-E16-4_L (SOP, 16-Leads, Body 4.90x3.89mm, Pitch 0.635mm, IPC High Density)
footprint MAXM-E16-4_M (SOP, 16-Leads, Body 4.90x3.89mm, Pitch 0.635mm, IPC Low Density)
pins: 1 LPA (hiz) "2nd-Order Lowpass Filter Output", 2 BPA (hiz) "2nd-Order Bandpass Filter Output", 3 NA/HPA (hiz) "2nd-Order Notch/Highpass Filter Output", 4 INVA (in) "Inverting Input of Filter Summing Op Amp", 5 SA (in) "Summing Input. The connection of the summing input, along with the other resistor connections, determine the circuit topology (mode) of each 2ndorder section. SA must never be left unconnected.", 6 ~{SHDN} (in) "Shutdown Input. Drive S\H\D\N\ low to enable shutdown mode; drive S\H\D\N\ high or connect to VDD for normal operation.", 7 GND (power) "Ground Pin", 8 VDD (power) "Positive Supply. Bypass VDD with a 0.1µF capacitor to GND. A low-noise supply is recommended. Input +5V for MAX7490 or +3V for MAX7491.", 9 CLK "Clock Input. Connect CLK to an external capacitor (COSC) between CLK and ground to set the internal oscillator frequency. For external clock operation, drive CLK with a CMOS-level clock. The duty cycle of the external clock (See Datasheet)", 10 EXTCLK (in) "External/Internal Clock Select Input. Connect EXTCLK to VDD when driving CLK externally. Connect EXTCLK to GND when using the internal oscillator.", 11 COM "Common Pin. Biased internally at VDD/2. Bypass externally to GND with 0.1µF capacitor. To override the internal biasing, drive COM with an external low-impedance source.", 12 SB (in) "Summing Input. The connection of the summing input, along with the other resistor connections, determine the circuit topology (mode) of each 2ndorder section. SB must never be left unconnected.", 13 INVB (in) "Inverting Input of Filter Summing Op Amp", 14 NB/HPB (hiz) "2nd-Order Notch/Highpass Filter Output", 15 BPB (hiz) "2nd-Order Bandpass Filter Output", 16 LPB (hiz) "2nd-Order Lowpass Filter Output"

## MAX7491CEE+
designator U?
Dual Switched Capacitor Filter, Clock Programmable, 0 to 70 degC, 16-Pin SOP (E16+4), Pb-Free; Generic Part Number: MAX7491; PartNumber: MAX7491CEE+; Filter Sections: 2; Filter Type: Universal; DatasheetVersion: Rev. 1; PackageVersion: Rev. K, 04/2012; PackageReference: E16+4; PackageDescription: 16-Pin Quarter Small-Outline Package, Body 4.90 x 3.89 mm, Pitch 0.635 mm; Supplier 1: Digi-Key; Supplier Part Number 1: MAX7491CEE+-ND; Filter Characteristic: Programmable; Filter Class: Switched Cap; Order Per Filter Section: 2; Program Method: Clock; RoHS: Pb-Free; Mounting Technology: Surface Mount; Code_JEDEC: MO137; ComponentLink1Description: Manufacturer URL; ComponentLink1URL: http://www.maximintegrated.com/; ComponentLink2Description: Datasheet; ComponentLink2URL: http://datasheets.maximintegrated.com/en/ds/MAX7490-MAX7491.pdf; ComponentLink3Description: Package Specification; ComponentLink3URL: http://pdfserv.maximintegrated.com/package_dwgs/21-0055.PDF
footprint MAXM-E16+4_N (SOP, 16-Leads, Body 4.90x3.89mm, Pitch 0.635mm, IPC Medium Density)
footprint MAXM-E16+4_L (SOP, 16-Leads, Body 4.90x3.89mm, Pitch 0.635mm, IPC High Density)
footprint MAXM-E16+4_M (SOP, 16-Leads, Body 4.90x3.89mm, Pitch 0.635mm, IPC Low Density)
pins: 1 LPA (hiz) "2nd-Order Lowpass Filter Output", 2 BPA (hiz) "2nd-Order Bandpass Filter Output", 3 NA/HPA (hiz) "2nd-Order Notch/Highpass Filter Output", 4 INVA (in) "Inverting Input of Filter Summing Op Amp", 5 SA (in) "Summing Input. The connection of the summing input, along with the other resistor connections, determine the circuit topology (mode) of each 2ndorder section. SA must never be left unconnected.", 6 ~{SHDN} (in) "Shutdown Input. Drive S\H\D\N\ low to enable shutdown mode; drive S\H\D\N\ high or connect to VDD for normal operation.", 7 GND (power) "Ground Pin", 8 VDD (power) "Positive Supply. Bypass VDD with a 0.1µF capacitor to GND. A low-noise supply is recommended. Input +5V for MAX7490 or +3V for MAX7491.", 9 CLK "Clock Input. Connect CLK to an external capacitor (COSC) between CLK and ground to set the internal oscillator frequency. For external clock operation, drive CLK with a CMOS-level clock. The duty cycle of the external clock (See Datasheet)", 10 EXTCLK (in) "External/Internal Clock Select Input. Connect EXTCLK to VDD when driving CLK externally. Connect EXTCLK to GND when using the internal oscillator.", 11 COM "Common Pin. Biased internally at VDD/2. Bypass externally to GND with 0.1µF capacitor. To override the internal biasing, drive COM with an external low-impedance source.", 12 SB (in) "Summing Input. The connection of the summing input, along with the other resistor connections, determine the circuit topology (mode) of each 2ndorder section. SB must never be left unconnected.", 13 INVB (in) "Inverting Input of Filter Summing Op Amp", 14 NB/HPB (hiz) "2nd-Order Notch/Highpass Filter Output", 15 BPB (hiz) "2nd-Order Bandpass Filter Output", 16 LPB (hiz) "2nd-Order Lowpass Filter Output"

## MAX7491CEE+T
designator U?
Dual Switched Capacitor Filter, Clock Programmable, 0 to 70 degC, 16-Pin SOP (E16+4), Pb-Free, Tape and Reel; Generic Part Number: MAX7491; PartNumber: MAX7491CEE+T; Filter Sections: 2; Filter Type: Universal; DatasheetVersion: Rev. 1; PackageVersion: Rev. K, 04/2012; PackageReference: E16+4; PackageDescription: 16-Pin Quarter Small-Outline Package, Body 4.90 x 3.89 mm, Pitch 0.635 mm; Supplier 1: Digi-Key; Supplier Part Number 1: MAX7491CEE+T-ND; Supplier 2: Mouser; Supplier Part Number 2: 700-MAX7491CEET; Filter Characteristic: Programmable; Filter Class: Switched Cap; Order Per Filter Section: 2; Packing: Tape and Reel; Program Method: Clock; RoHS: Pb-Free; Mounting Technology: Surface Mount; Code_JEDEC: MO137; ComponentLink1Description: Manufacturer URL; ComponentLink1URL: http://www.maximintegrated.com/; ComponentLink2Description: Datasheet; ComponentLink2URL: http://datasheets.maximintegrated.com/en/ds/MAX7490-MAX7491.pdf; ComponentLink3Description: Package Specification; ComponentLink3URL: http://pdfserv.maximintegrated.com/package_dwgs/21-0055.PDF
footprint MAXM-E16+4_N (SOP, 16-Leads, Body 4.90x3.89mm, Pitch 0.635mm, IPC Medium Density)
footprint MAXM-E16+4_L (SOP, 16-Leads, Body 4.90x3.89mm, Pitch 0.635mm, IPC High Density)
footprint MAXM-E16+4_M (SOP, 16-Leads, Body 4.90x3.89mm, Pitch 0.635mm, IPC Low Density)
pins: 1 LPA (hiz) "2nd-Order Lowpass Filter Output", 2 BPA (hiz) "2nd-Order Bandpass Filter Output", 3 NA/HPA (hiz) "2nd-Order Notch/Highpass Filter Output", 4 INVA (in) "Inverting Input of Filter Summing Op Amp", 5 SA (in) "Summing Input. The connection of the summing input, along with the other resistor connections, determine the circuit topology (mode) of each 2ndorder section. SA must never be left unconnected.", 6 ~{SHDN} (in) "Shutdown Input. Drive S\H\D\N\ low to enable shutdown mode; drive S\H\D\N\ high or connect to VDD for normal operation.", 7 GND (power) "Ground Pin", 8 VDD (power) "Positive Supply. Bypass VDD with a 0.1µF capacitor to GND. A low-noise supply is recommended. Input +5V for MAX7490 or +3V for MAX7491.", 9 CLK "Clock Input. Connect CLK to an external capacitor (COSC) between CLK and ground to set the internal oscillator frequency. For external clock operation, drive CLK with a CMOS-level clock. The duty cycle of the external clock (See Datasheet)", 10 EXTCLK (in) "External/Internal Clock Select Input. Connect EXTCLK to VDD when driving CLK externally. Connect EXTCLK to GND when using the internal oscillator.", 11 COM "Common Pin. Biased internally at VDD/2. Bypass externally to GND with 0.1µF capacitor. To override the internal biasing, drive COM with an external low-impedance source.", 12 SB (in) "Summing Input. The connection of the summing input, along with the other resistor connections, determine the circuit topology (mode) of each 2ndorder section. SB must never be left unconnected.", 13 INVB (in) "Inverting Input of Filter Summing Op Amp", 14 NB/HPB (hiz) "2nd-Order Notch/Highpass Filter Output", 15 BPB (hiz) "2nd-Order Bandpass Filter Output", 16 LPB (hiz) "2nd-Order Lowpass Filter Output"

## MAX7491CEE-T
designator U?
Dual Switched Capacitor Filter, Clock Programmable, 0 to 70 degC, 16-Pin SOP (E16-4), Tape and Reel; Generic Part Number: MAX7491; PartNumber: MAX7491CEE-T; Filter Sections: 2; Filter Type: Universal; DatasheetVersion: Rev. 1; PackageVersion: Rev. K, 04/2012; PackageReference: E16-4; PackageDescription: 16-Pin Quarter Small-Outline Package, Body 4.90 x 3.89 mm, Pitch 0.635 mm; Supplier 1: Mouser; Supplier Part Number 1: N/A; Filter Characteristic: Programmable; Filter Class: Switched Cap; Order Per Filter Section: 2; Packing: Tape and Reel; Program Method: Clock; Mounting Technology: Surface Mount; Code_JEDEC: MO137; ComponentLink1Description: Manufacturer URL; ComponentLink1URL: http://www.maximintegrated.com/; ComponentLink2Description: Datasheet; ComponentLink2URL: http://datasheets.maximintegrated.com/en/ds/MAX7490-MAX7491.pdf; ComponentLink3Description: Package Specification; ComponentLink3URL: http://pdfserv.maximintegrated.com/package_dwgs/21-0055.PDF
footprint MAXM-E16-4_N (SOP, 16-Leads, Body 4.90x3.89mm, Pitch 0.635mm, IPC Medium Density)
footprint MAXM-E16-4_L (SOP, 16-Leads, Body 4.90x3.89mm, Pitch 0.635mm, IPC High Density)
footprint MAXM-E16-4_M (SOP, 16-Leads, Body 4.90x3.89mm, Pitch 0.635mm, IPC Low Density)
pins: 1 LPA (hiz) "2nd-Order Lowpass Filter Output", 2 BPA (hiz) "2nd-Order Bandpass Filter Output", 3 NA/HPA (hiz) "2nd-Order Notch/Highpass Filter Output", 4 INVA (in) "Inverting Input of Filter Summing Op Amp", 5 SA (in) "Summing Input. The connection of the summing input, along with the other resistor connections, determine the circuit topology (mode) of each 2ndorder section. SA must never be left unconnected.", 6 ~{SHDN} (in) "Shutdown Input. Drive S\H\D\N\ low to enable shutdown mode; drive S\H\D\N\ high or connect to VDD for normal operation.", 7 GND (power) "Ground Pin", 8 VDD (power) "Positive Supply. Bypass VDD with a 0.1µF capacitor to GND. A low-noise supply is recommended. Input +5V for MAX7490 or +3V for MAX7491.", 9 CLK "Clock Input. Connect CLK to an external capacitor (COSC) between CLK and ground to set the internal oscillator frequency. For external clock operation, drive CLK with a CMOS-level clock. The duty cycle of the external clock (See Datasheet)", 10 EXTCLK (in) "External/Internal Clock Select Input. Connect EXTCLK to VDD when driving CLK externally. Connect EXTCLK to GND when using the internal oscillator.", 11 COM "Common Pin. Biased internally at VDD/2. Bypass externally to GND with 0.1µF capacitor. To override the internal biasing, drive COM with an external low-impedance source.", 12 SB (in) "Summing Input. The connection of the summing input, along with the other resistor connections, determine the circuit topology (mode) of each 2ndorder section. SB must never be left unconnected.", 13 INVB (in) "Inverting Input of Filter Summing Op Amp", 14 NB/HPB (hiz) "2nd-Order Notch/Highpass Filter Output", 15 BPB (hiz) "2nd-Order Bandpass Filter Output", 16 LPB (hiz) "2nd-Order Lowpass Filter Output"

## MAX7491EEE
designator U?
Dual Switched Capacitor Filter, Clock Programmable, -40 to 85 degC, 16-Pin SOP (E16-4); Generic Part Number: MAX7491; PartNumber: MAX7491EEE; Filter Sections: 2; Filter Type: Universal; DatasheetVersion: Rev. 1; PackageVersion: Rev. K, 04/2012; PackageReference: E16-4; PackageDescription: 16-Pin Quarter Small-Outline Package, Body 4.90 x 3.89 mm, Pitch 0.635 mm; Supplier 1: Mouser; Supplier Part Number 1: N/A; Filter Characteristic: Programmable; Filter Class: Switched Cap; Order Per Filter Section: 2; Program Method: Clock; Mounting Technology: Surface Mount; Code_JEDEC: MO137; ComponentLink1Description: Manufacturer URL; ComponentLink1URL: http://www.maximintegrated.com/; ComponentLink2Description: Datasheet; ComponentLink2URL: http://datasheets.maximintegrated.com/en/ds/MAX7490-MAX7491.pdf; ComponentLink3Description: Package Specification; ComponentLink3URL: http://pdfserv.maximintegrated.com/package_dwgs/21-0055.PDF
footprint MAXM-E16-4_N (SOP, 16-Leads, Body 4.90x3.89mm, Pitch 0.635mm, IPC Medium Density)
footprint MAXM-E16-4_L (SOP, 16-Leads, Body 4.90x3.89mm, Pitch 0.635mm, IPC High Density)
footprint MAXM-E16-4_M (SOP, 16-Leads, Body 4.90x3.89mm, Pitch 0.635mm, IPC Low Density)
pins: 1 LPA (hiz) "2nd-Order Lowpass Filter Output", 2 BPA (hiz) "2nd-Order Bandpass Filter Output", 3 NA/HPA (hiz) "2nd-Order Notch/Highpass Filter Output", 4 INVA (in) "Inverting Input of Filter Summing Op Amp", 5 SA (in) "Summing Input. The connection of the summing input, along with the other resistor connections, determine the circuit topology (mode) of each 2ndorder section. SA must never be left unconnected.", 6 ~{SHDN} (in) "Shutdown Input. Drive S\H\D\N\ low to enable shutdown mode; drive S\H\D\N\ high or connect to VDD for normal operation.", 7 GND (power) "Ground Pin", 8 VDD (power) "Positive Supply. Bypass VDD with a 0.1µF capacitor to GND. A low-noise supply is recommended. Input +5V for MAX7490 or +3V for MAX7491.", 9 CLK "Clock Input. Connect CLK to an external capacitor (COSC) between CLK and ground to set the internal oscillator frequency. For external clock operation, drive CLK with a CMOS-level clock. The duty cycle of the external clock (See Datasheet)", 10 EXTCLK (in) "External/Internal Clock Select Input. Connect EXTCLK to VDD when driving CLK externally. Connect EXTCLK to GND when using the internal oscillator.", 11 COM "Common Pin. Biased internally at VDD/2. Bypass externally to GND with 0.1µF capacitor. To override the internal biasing, drive COM with an external low-impedance source.", 12 SB (in) "Summing Input. The connection of the summing input, along with the other resistor connections, determine the circuit topology (mode) of each 2ndorder section. SB must never be left unconnected.", 13 INVB (in) "Inverting Input of Filter Summing Op Amp", 14 NB/HPB (hiz) "2nd-Order Notch/Highpass Filter Output", 15 BPB (hiz) "2nd-Order Bandpass Filter Output", 16 LPB (hiz) "2nd-Order Lowpass Filter Output"